# EAGLE library part STM32L151R8H6 (library ST Microelectronics)
Ultralow power ARM-based 32-bit MCU
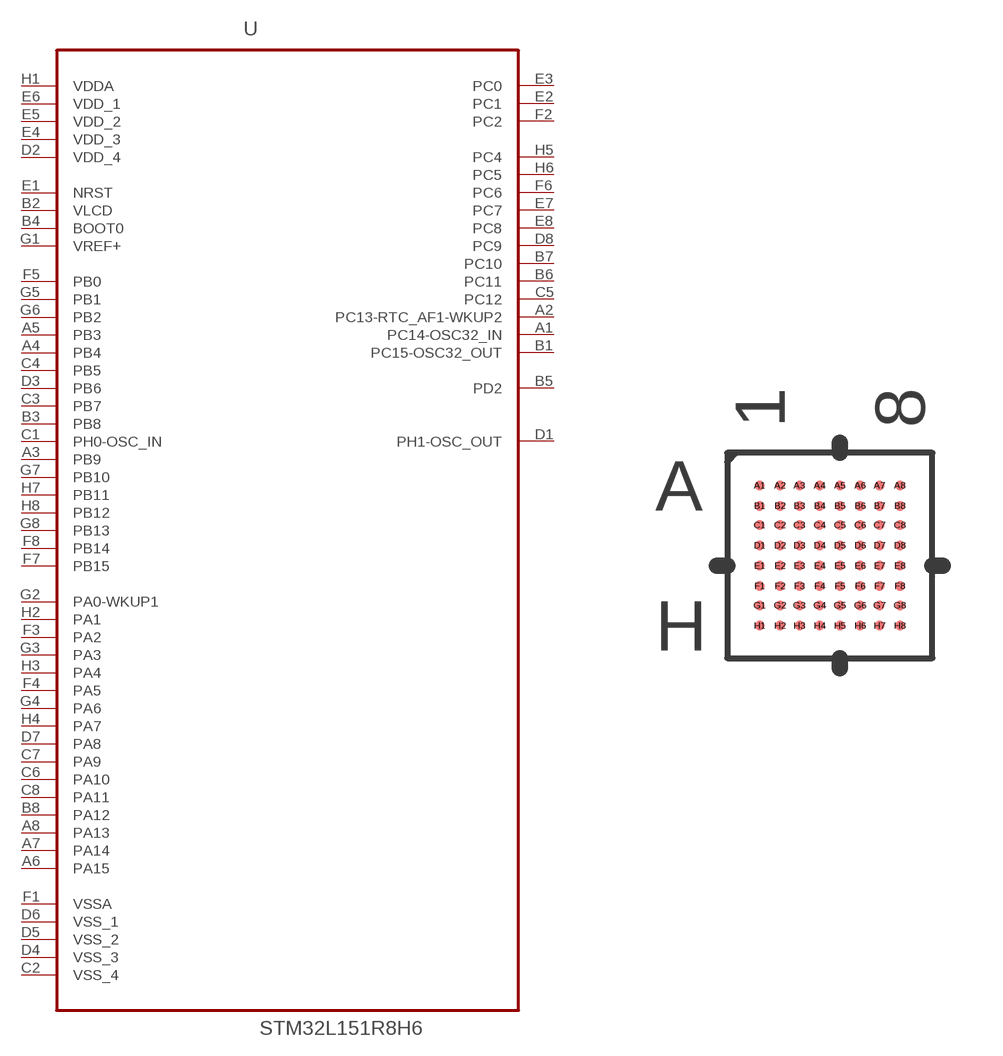
[diagram p347: symbol with the pads of BGA64C50P8X8_500X500X120; footprint BGA64C50P8X8_500X500X120]

Designator prefix U

## STM32L151R8H6 (MPN: STM32L151R8H6; OC_FARNELL: 2060928; OC_NEWARK: 65T3795; PACKAGE: BGA-64; SUPPLIER: STMICROELECTRONICS)  [BGA64C50P8X8_500X500X120]
A1  PC14-OSC32_IN
A2  PC13-RTC_AF1-WKUP2
A3  PB9
A4  PB4
A5  PB3
A6  PA15
A7  PA14
A8  PA13
B1  PC15-OSC32_OUT
B2  VLCD  in
B3  PB8
B4  BOOT0  in
B5  PD2
B6  PC11
B7  PC10
B8  PA12
C1  PH0-OSC_IN  in
C2  VSS_4  pwr
C3  PB7
C4  PB5
C5  PC12
C6  PA10
C7  PA9
C8  PA11
D1  PH1-OSC_OUT  out
D2  VDD_4  pwr
D3  PB6
D4  VSS_3  pwr
D5  VSS_2  pwr
D6  VSS_1  pwr
D7  PA8
D8  PC9
E1  NRST
E2  PC1
E3  PC0
E4  VDD_3  pwr
E5  VDD_2  pwr
E6  VDD_1  pwr
E7  PC7
E8  PC8
F1  VSSA  pwr
F2  PC2
F3  PA2
F4  PA5
F5  PB0
F6  PC6
F7  PB15
F8  PB14
G1  VREF+  in
G2  PA0-WKUP1
G3  PA3
G4  PA6
G5  PB1
G6  PB2
G7  PB10
G8  PB13
H1  VDDA  pwr
H2  PA1
H3  PA4
H4  PA7
H5  PC4
H6  PC5
H7  PB11
H8  PB12

## Footprint BGA64C50P8X8_500X500X120 (pad centres in mm)
smd 0.254 x 0.254: A1 -1.753,1.753; A2 -1.245,1.753; A3 -0.762,1.753; A4 -0.254,1.753; A5 0.254,1.753; A6 0.762,1.753; A7 1.245,1.753; A8 1.753,1.753; B1 -1.753,1.245; B2 -1.245,1.245; B3 -0.762,1.245; B4 -0.254,1.245; B5 0.254,1.245; B6 0.762,1.245; B7 1.245,1.245; B8 1.753,1.245; C1 -1.753,0.762; C2 -1.245,0.762; C3 -0.762,0.762; C4 -0.254,0.762; C5 0.254,0.762; C6 0.762,0.762; C7 1.245,0.762; C8 1.753,0.762; D1 -1.753,0.254; D2 -1.245,0.254; D3 -0.762,0.254; D4 -0.254,0.254; D5 0.254,0.254; D6 0.762,0.254; D7 1.245,0.254; D8 1.753,0.254; E1 -1.753,-0.254; E2 -1.245,-0.254; E3 -0.762,-0.254; E4 -0.254,-0.254; E5 0.254,-0.254; E6 0.762,-0.254; E7 1.245,-0.254; E8 1.753,-0.254; F1 -1.753,-0.762; F2 -1.245,-0.762; F3 -0.762,-0.762; F4 -0.254,-0.762; F5 0.254,-0.762; F6 0.762,-0.762; F7 1.245,-0.762; F8 1.753,-0.762; G1 -1.753,-1.245; G2 -1.245,-1.245; G3 -0.762,-1.245; G4 -0.254,-1.245; G5 0.254,-1.245; G6 0.762,-1.245; G7 1.245,-1.245; G8 1.753,-1.245; H1 -1.753,-1.753; H2 -1.245,-1.753; H3 -0.762,-1.753; H4 -0.254,-1.753; H5 0.254,-1.753; H6 0.762,-1.753; H7 1.245,-1.753; H8 1.753,-1.753